# Altium schematic symbol library 3.3_500mA_TI.SchLib: 1 symbol
Pins are listed as number, name and electrical type; pins without a type are passive.

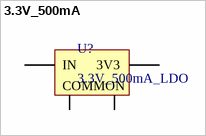
[diagram p0: symbol 3.3V_500mA]

## 3.3V_500mA
designator U?, comment 3.3V_500mA_LDO
IC REG LIN 3.3V 500MA SOT223-4; Supplier: Digikey; Supplier Part Number: 296-13424-1-ND
footprint 3.3V_500mA_LDO
pins: 1 IN, 2 GND, 3 3V3, 4 GND
text: COMMON